# Altium schematic symbol library TE_50x40mm_Snap.SchLib: 1 symbol
Pins are listed as number, name and electrical type; pins without a type are passive.

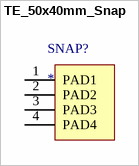
[diagram p0: symbol TE_50x40mm_Snap]

## TE_50x40mm_Snap
designator SNAP?  (no BOM)
pins: 1 PAD1 (power), 2 PAD2 (power), 3 PAD3 (power), 4 PAD4 (power)